# Altium footprint library 5037630491.PcbLib: 1 footprints
Each footprint in its own frame and in the unit in brackets; x right, y up, seen from the top. Pads: shape width x height; smd on the part's side, far side on the other; paste and mask are expansions set on the pad; w line width, h text height; cw(c..) or ccw(c..) is an arc to the next point about the centre after c.
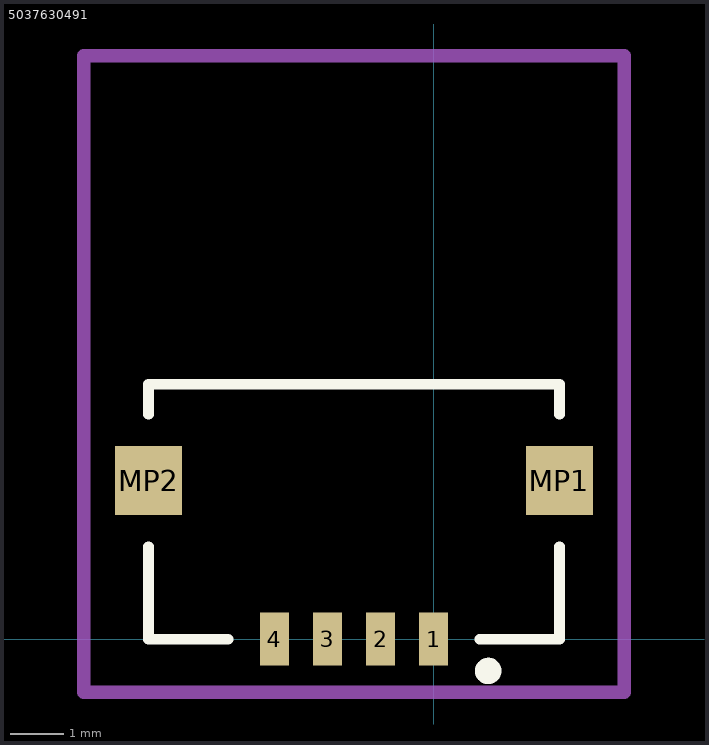
[diagram p0: the footprint, top view; thin cyan lines are the x and y axes]

## 5037630491 [mm]
pads (6):
  rect 0.55x1 smd: 1(0,0) 2(-1,0) 3(-2,0) 4(-3,0)
  rect 1.26x1.3 smd: MP1(2.375,2.99) MP2(-5.375,2.99)
Top Overlay:
  circle w0.25: c1.03,-0.6 r0.125
  lines w0.2: -5.375,1.74 -5.375,0 -3.875,0 ; -5.375,4.24 -5.375,4.81 2.375,4.81 2.375,4.24 ; 0.875,0 2.375,0 2.375,1.74
Mechanical 15:
  lines w0.254: -6.6,-1 3.6,-1 3.6,11 -6.6,11 -6.6,-1
3D body "503763-0491.stp": height 1.1, standoff 0, extent -5.879,-0.44 2.879,4.855